# Altium footprint library CUI_CMC-2742PBJ-A.PcbLib: 1 footprints
Each footprint in its own frame and in the unit in brackets; x right, y up, seen from the top. Pads: shape width x height; smd on the part's side, far side on the other; paste and mask are expansions set on the pad; w line width, h text height; cw(c..) or ccw(c..) is an arc to the next point about the centre after c.
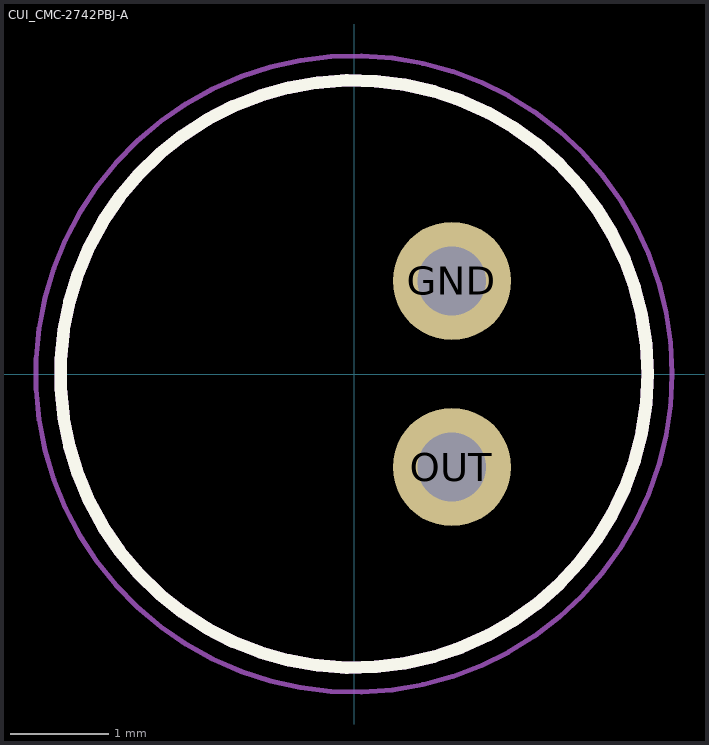
[diagram p0: the footprint, top view; thin cyan lines are the x and y axes]

## CUI_CMC-2742PBJ-A [mm]
pads (2):
  round 1.208 hole 0.7: GND(1,0.95) OUT(1,-0.95)
Top Overlay:
  circle w0.127: c0,0 r3
Mechanical 13:
  circle w0.127: c0,0 r3
Mechanical 15:
  circle w0.05: c0,0 r3.25